# Altium footprint library RSTA1AMMO.PcbLib: 2 footprints
Each footprint in its own frame and in the unit in brackets; x right, y up, seen from the top. Pads: shape width x height; smd on the part's side, far side on the other; paste and mask are expansions set on the pad; w line width, h text height; cw(c..) or ccw(c..) is an arc to the next point about the centre after c.
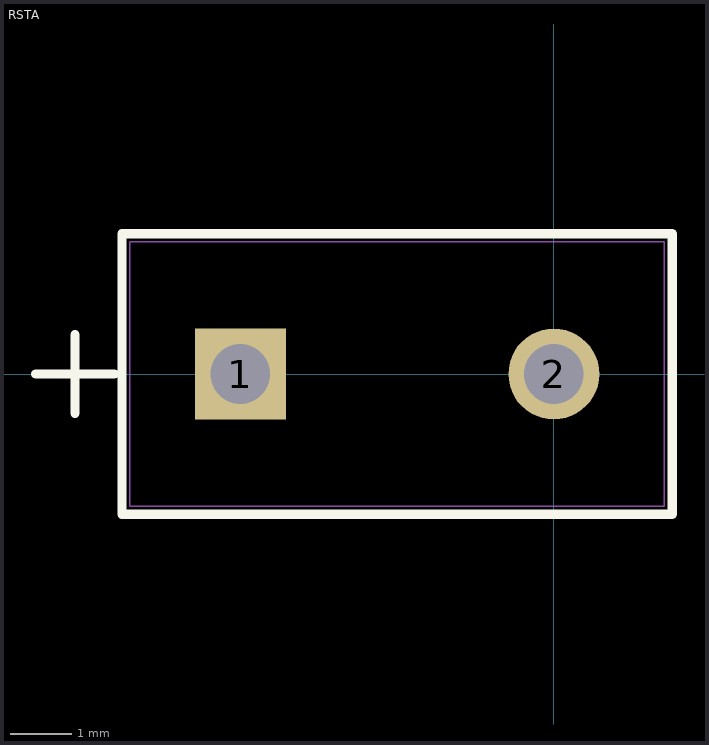
[diagram p0: the footprints below, top view; thin cyan lines are the x and y axes]

## PCBComponent_1 [mil]

## RSTA [mil]
pads (2):
  rect 58x58 hole 38 mask-1000: 1(-200,0)
  round 58 hole 38 mask-1000: 2(0,0)
Top Overlay:
  lines w6: -330.5,0 -280.5,0 ; -305.5,-25 -305.5,25 ; -275.5,-89.5 -275.5,89.5 75.5,89.5 75.5,-89.5 -275.5,-89.5
Top Paste:
  region: 0,-29.25 7.57,-28.25 14.63,-25.33 20.68,-20.68 25.33,-14.63 28.25,-7.57 29.25,0 28.25,7.57 25.33,14.63 20.68,20.68 14.63,25.33 7.57,28.25 0,29.25 -7.57,28.25 -14.63,25.33 -20.68,20.68 -25.33,14.63 -28.25,7.57 -29.25,0 -28.25,-7.57 -25.33,-14.63 -20.68,-20.68 -14.63,-25.33 -7.57,-28.25
  region: -229,-29 -171,-29 -171,29 -229,29
Top Solder:
  region: 0,-29.25 7.57,-28.25 14.63,-25.33 20.68,-20.68 25.33,-14.63 28.25,-7.57 29.25,0 28.25,7.57 25.33,14.63 20.68,20.68 14.63,25.33 7.57,28.25 0,29.25 -7.57,28.25 -14.63,25.33 -20.68,20.68 -25.33,14.63 -28.25,7.57 -29.25,0 -28.25,-7.57 -25.33,-14.63 -20.68,-20.68 -14.63,-25.33 -7.57,-28.25
  region: -229,-29 -171,-29 -171,29 -229,29
Bottom Solder:
  region: 0,-29.25 7.57,-28.25 14.63,-25.33 20.68,-20.68 25.33,-14.63 28.25,-7.57 29.25,0 28.25,7.57 25.33,14.63 20.68,20.68 14.63,25.33 7.57,28.25 0,29.25 -7.57,28.25 -14.63,25.33 -20.68,20.68 -25.33,14.63 -28.25,7.57 -29.25,0 -28.25,-7.57 -25.33,-14.63 -20.68,-20.68 -14.63,-25.33 -7.57,-28.25
  region: -229,-29 -171,-29 -171,29 -229,29
Mechanical 1:
  lines w1: -330.5,0 -280.5,0 ; -305.5,-25 -305.5,25 ; -270.5,-84.5 -270.5,84.5 70.5,84.5 70.5,-84.5 -270.5,-84.5